# EAGLE library part INA110* (library EW_MOSFETs)
Instrumentation Amplifier Fast-Settling FET-Input
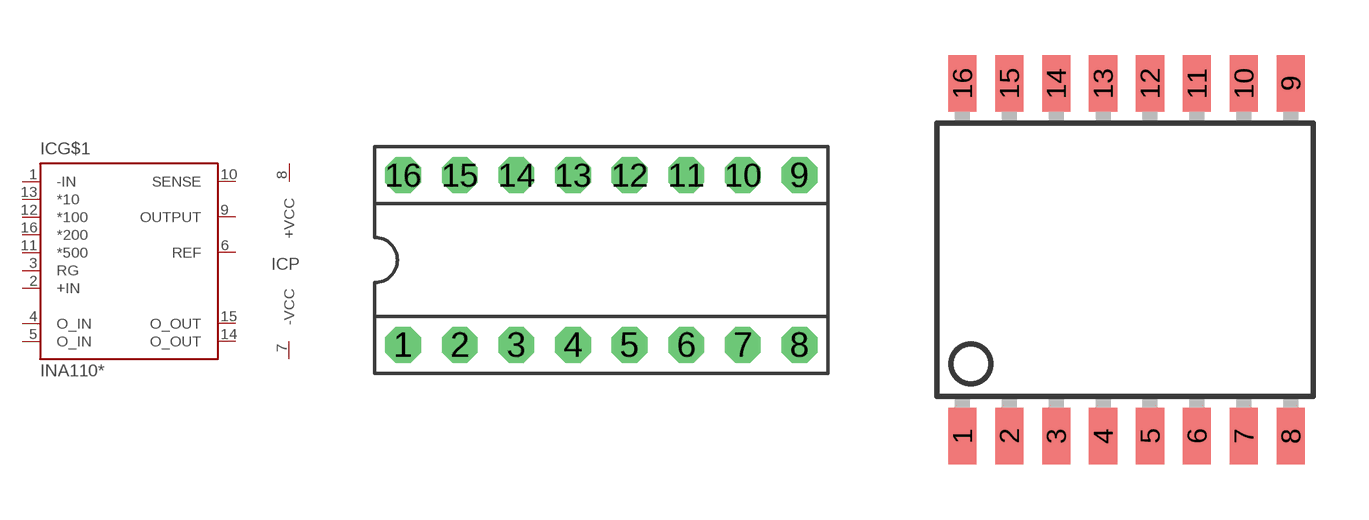
[diagram p7: symbol with the pads of DIL16; footprints DIL16, SO16-1]

Designator prefix IC; gates G$1=INA110 P=+-VCC

## INA110KP (MF: TEXAS INSTRUMENTS; MPN: INA110KP; OC_FARNELL: 1097535; OC_NEWARK: 74K3807)  [DIL16]
1  G$1:-IN  in
2  G$1:+IN  in
3  G$1:RG  pas
4  G$1:O_IN  pas
5  G$1:O_IN  pas
6  G$1:REF  in
7  P:-VCC  pwr
8  P:+VCC  pwr
9  G$1:OUTPUT  out
10  G$1:SENSE  in
11  G$1:*500  pas
12  G$1:*100  pas
13  G$1:*10  pas
14  G$1:O_OUT  pas
15  G$1:O_OUT  pas
16  G$1:*200  pas

## INA110KU (MF: TEXAS INSTRUMENTS; MPN: INA110KU; OC_FARNELL: 1212396; OC_NEWARK: 04M4539)  [SO16-1]
Pads as for DIL16

## Footprint DIL16 (pad centres in mm)
Dual In Line
drill 0.813 pad 1.6 octagon: 1 -8.89,-3.81; 2 -6.35,-3.81; 3 -3.81,-3.81; 4 -1.27,-3.81; 5 1.27,-3.81; 6 3.81,-3.81; 7 6.35,-3.81; 8 8.89,-3.81; 9 8.89,3.81; 10 6.35,3.81; 11 3.81,3.81; 12 1.27,3.81; 13 -1.27,3.81; 14 -3.81,3.81; 15 -6.35,3.81; 16 -8.89,3.81

## Footprint SO16-1 (pad centres in mm)
Small Outline Package
smd 0.762 x 1.524: 1 -4.445,-4.775; 2 -3.175,-4.775; 3 -1.905,-4.775; 4 -0.635,-4.775; 5 0.635,-4.775; 6 1.905,-4.775; 7 3.175,-4.775; 8 4.445,-4.775; 9 4.445,4.775; 10 3.175,4.775; 11 1.905,4.775; 12 0.635,4.775; 13 -0.635,4.775; 14 -1.905,4.775; 15 -3.175,4.775; 16 -4.445,4.775